# EAGLE library part 1-770969-0 (library con-te-mate-n-lok)
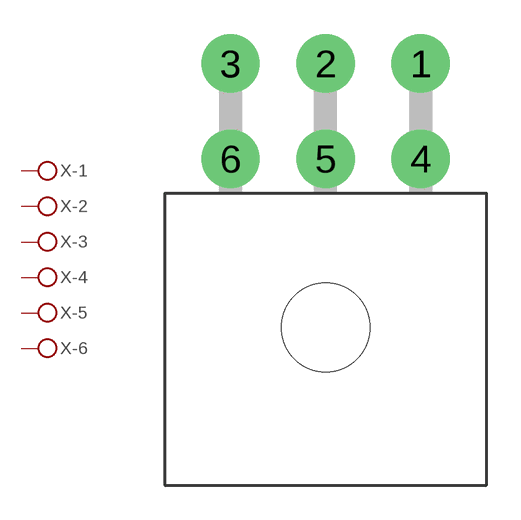
[diagram p0: symbol with the pads of 1-770969-0; footprint 1-770969-0]

Designator prefix X; gates -1=PIN -2=PIN -3=PIN -4=PIN -5=PIN -6=PIN

## 1-770969-0  [1-770969-0]
1  -1:P$1
2  -2:P$1
3  -3:P$1
4  -4:P$1
5  -5:P$1
6  -6:P$1

## Footprint 1-770969-0 (pad centres in mm)
drill 1.4 pad 2.54: 1 4.14,11.48; 2 0,11.48; 3 -4.14,11.48; 4 4.14,7.34; 5 0,7.34; 6 -4.14,7.34
hole 3.86 at 0,0